# Altium footprint library Driver.PcbLib: 18 footprints (part 1 of 2)
Each footprint in its own frame and in the unit in brackets; x right, y up, seen from the top. Pads: shape width x height; smd on the part's side, far side on the other; paste and mask are expansions set on the pad; w line width, h text height; cw(c..) or ccw(c..) is an arc to the next point about the centre after c.
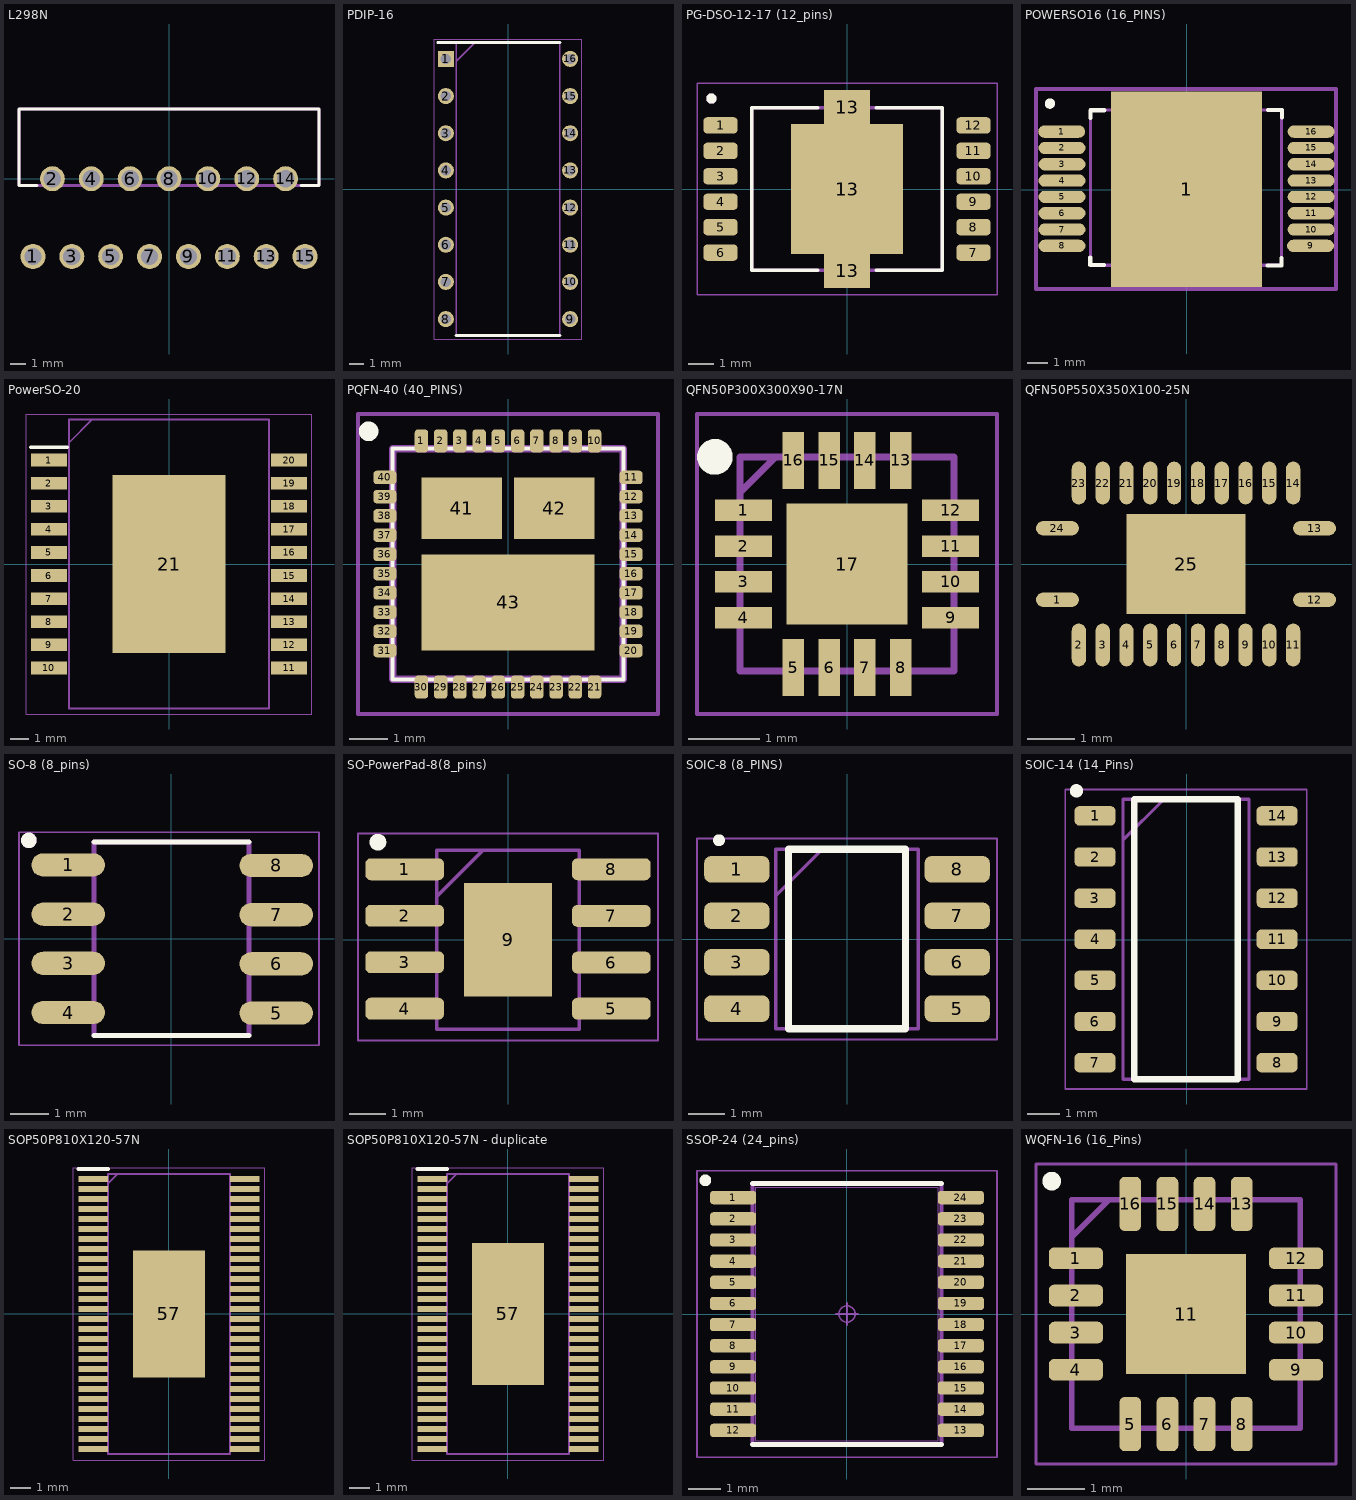
[diagram p0: the footprints below, top view; thin cyan lines are the x and y axes]

## L298N [mm]
pads (15):
  round 1.63 hole 1.13: 1(-8.89,-5.08) 2(-7.62,0) 3(-6.35,-5.08) 4(-5.08,0) 5(-3.81,-5.08) 6(-2.54,0) 7(-1.27,-5.08) 8(0,0) 9(1.27,-5.08) 10(2.54,0) 11(3.81,-5.08) 12(5.08,0) 13(6.35,-5.08) 14(7.62,0) 15(8.89,-5.08)
Top Overlay:
  lines w0.2: -8.638,-0.45 -9.8,-0.45 -9.8,4.55 9.8,4.55 9.8,-0.45 8.638,-0.45
Mechanical 13:
  lines w0.2: -9.8,-0.45 -9.8,4.55 9.8,4.55 9.8,-0.45 -9.8,-0.45
3D body "L298N.stp": height 21.75, standoff -3.35, extent -9.8,-5.172 9.8,3.92

## PDIP-16 [mm]
pads (16):
  rect 1.1x1.1 hole 0.7: 1(-4.25,8.89)
  round 1.1 hole 0.7: 2(-4.25,6.35) 3(-4.25,3.81) 4(-4.25,1.27) 5(-4.25,-1.27) 6(-4.25,-3.81) 7(-4.25,-6.35) 8(-4.25,-8.89) 9(4.25,-8.89) 10(4.25,-6.35) 11(4.25,-3.81) 12(4.25,-1.27) 13(4.25,1.27) 14(4.25,3.81) 15(4.25,6.35) 16(4.25,8.89)
Top Overlay:
  lines w0.2: -4.8,10 3.55,10 ; -3.55,-10 3.55,-10
Mechanical 13:
  lines w0.1: -3.55,8.73 -2.28,10 ; -3.55,-10 3.55,-10 3.55,10 -3.55,10 -3.55,-10
Mechanical 15:
  lines w0.05: -5.05,-10.25 5.05,-10.25 5.05,10.25 -5.05,10.25 -5.05,-10.25
3D body "L293B.stp": height 5.1, standoff -3.5, extent -4.375,-10 4.375,10

## PG-DSO-12-17 (12_pins) [mm]
pads (15):
  rrect50% 1.35x0.65 smd: 1(-4.975,2.5) 2(-4.975,1.5) 3(-4.975,0.5) 4(-4.975,-0.5) 5(-4.975,-1.5) 6(-4.975,-2.5) 7(4.975,-2.5) 8(4.975,-1.5) 9(4.975,-0.5) 10(4.975,0.5) 11(4.975,1.5) 12(4.975,2.5)
  rect 1.8x1.35 smd paste-2: 13(0,-3.225) 13(0,3.225)
  rect 4.4x5.1 smd paste-4: 13(0,0)
Top Overlay:
  circle w0.2: c-5.334,3.556 r0.102
  lines w0.127: -1.15,-3.2 -3.75,-3.2 -3.75,3.2 -1.15,3.2 ; 1.15,-3.2 3.75,-3.2 3.75,3.2 1.15,3.2
Top Paste:
  region: 0.475,2.525 -0.475,2.525 -0.475,4.125 0.475,4.125
  region: 2.275,0.375 0.025,0.375 0.025,2.275 2.275,2.275
  region: -0.025,0.375 -2.275,0.375 -2.275,2.275 -0.025,2.275
  region: 2.275,-2.275 0.025,-2.275 0.025,-0.375 2.275,-0.375
  region: -0.025,-2.275 -2.275,-2.275 -2.275,-0.375 -0.025,-0.375
  region: 0.475,-4.125 -0.475,-4.125 -0.475,-2.525 0.475,-2.525
Mechanical 13:
  circle w0.2: c-5.334,3.556 r0.102
  lines w0.127: -3.75,-3.2 3.75,-3.2 3.75,3.2 -3.75,3.2 -3.75,-3.2
Mechanical 15:
  lines w0.05: -5.9,-4.15 5.9,-4.15 5.9,4.15 -5.9,4.15 -5.9,-4.15
3D body "IFX9201SG.SLDPRT": height 2.5, standoff -0.02, extent -5.163,-3.9 5.163,3.9

## POWERSO16 (16_PINS) [mm] "POWERSO16 (16_PINS)"
pads (17):
  oval 2.3x0.6 smd paste+0 mask+0: 1(-6.125,2.85) 2(-6.108,2.05) 3(-6.108,1.25) 4(-6.108,0.45) 5(-6.108,-0.35) 6(-6.108,-1.15) 7(-6.108,-1.95) 8(-6.108,-2.75) 9(6.075,-2.75) 10(6.1,-1.95) 11(6.1,-1.15) 12(6.1,-0.35) 13(6.1,0.45) 14(6.1,1.25) 15(6.1,2.05) 16(6.1,2.85)
  rect 7.4x9.6 smd paste+0 mask+0: 1(0,0.025)
Top Overlay:
  circle w0.3: c-6.7,4.225 r0.103
  lines w0.2: -4.725,-3.313 -4.725,-3.688 -4.05,-3.688 ; -4.712,3.525 -4.712,3.9 -4.037,3.9 ; 3.975,-3.713 4.65,-3.713 4.65,-3.338 ; 4,3.912 4.675,3.912 4.675,3.537
Mechanical 10:
  lines w0.2: -7.383,-4.875 -7.383,4.95 7.325,4.95 7.325,-4.875 -7.383,-4.875
Mechanical 12:
  lines w0.15: -4.708,-3.7 -4.708,3.9 4.65,3.9 4.65,-3.7 -4.708,-3.7
Mechanical 15:
  lines w0.1: -0.783,-0.4 0.217,-0.4 ; -0.283,-0.9 -0.283,0.1
  lines w0.2: -7.383,-4.875 -7.383,4.95 7.325,4.95 7.325,-4.875 -7.383,-4.875
3D body: height 0.25, standoff 0, extent -7.05,-4.725 7.05,4.775

## PowerSO-20 [mm]
pads (21):
  rect 2x0.7 smd: 1(-6.6,5.715) 2(-6.6,4.445) 3(-6.6,3.175) 4(-6.6,1.905) 5(-6.6,0.635) 6(-6.6,-0.635) 7(-6.6,-1.905) 8(-6.6,-3.175) 9(-6.6,-4.445) 10(-6.6,-5.715) 11(6.6,-5.715) 12(6.6,-4.445) 13(6.6,-3.175) 14(6.6,-1.905) 15(6.6,-0.635) 16(6.6,0.635) 17(6.6,1.905) 18(6.6,3.175) 19(6.6,4.445) 20(6.6,5.715)
  rect 6.2x9.8 smd: 21(0,0)
Top Overlay:
  lines w0.2: -7.6,6.415 -5.6,6.415
Mechanical 13:
  lines w0.1: -5.5,6.68 -4.23,7.95 ; -5.5,-7.95 5.5,-7.95 5.5,7.95 -5.5,7.95 -5.5,-7.95
Mechanical 15:
  lines w0.05: -7.85,-8.25 7.85,-8.25 7.85,8.25 -7.85,8.25 -7.85,-8.25
3D body "L298P.stp": height 3.6, standoff 0, extent -7.1,-7.95 7.1,7.95

## PQFN-40 (40_PINS) [mm] "PQFN-40 (40_PINS)"
pads (43):
  rrect50% 0.35x0.6 smd: 1(-2.25,3.2) 2(-1.75,3.2) 3(-1.25,3.2) 4(-0.75,3.2) 5(-0.25,3.2) 6(0.25,3.2) 7(0.75,3.2) 8(1.25,3.2) 9(1.75,3.2) 10(2.25,3.2) 21(2.25,-3.2) 22(1.75,-3.2) 23(1.25,-3.2) 24(0.75,-3.2) 25(0.25,-3.2) 26(-0.25,-3.2) 27(-0.75,-3.2) 28(-1.25,-3.2) 29(-1.75,-3.2) 30(-2.25,-3.2)
  rrect50% 0.6x0.35 smd: 11(3.2,2.25) 12(3.2,1.75) 13(3.2,1.25) 14(3.2,0.75) 15(3.2,0.25) 16(3.2,-0.25) 17(3.2,-0.75) 18(3.2,-1.25) 19(3.2,-1.75) 20(3.2,-2.25) 31(-3.2,-2.25) 32(-3.2,-1.75) 33(-3.2,-1.25) 34(-3.2,-0.75) 35(-3.2,-0.25) 36(-3.2,0.25) 37(-3.2,0.75) 38(-3.2,1.25) 39(-3.2,1.75) 40(-3.2,2.25)
  rect 2.1x1.6 smd: 41(-1.2,1.45) 42(1.2,1.45)
  rect 4.5x2.5 smd: 43(0,-1)
Top Overlay:
  circle w0.3: c-3.625,3.45 r0.103
  lines w0.1: -3,-3 -3,3 3,3 3,-3 -3,-3
Mechanical 13:
  lines w0.2: -3,-3 -3,3 3,3 3,-3 -3,-3
Mechanical 15:
  lines w0.1: -3.9,-3.9 -3.9,3.9 3.9,3.9 3.9,-3.9 -3.9,-3.9
3D body "FDMF6820C.stp": height 1.2, standoff 0, extent -3,-3 3,3

## QFN50P300X300X90-17N [mm]
pads (17):
  rect 0.8x0.3 smd: 1(-1.45,0.75) 2(-1.45,0.25) 3(-1.45,-0.25) 4(-1.45,-0.75) 9(1.45,-0.75) 10(1.45,-0.25) 11(1.45,0.25) 12(1.45,0.75)
  rect 0.3x0.8 smd: 5(-0.75,-1.45) 6(-0.25,-1.45) 7(0.25,-1.45) 8(0.75,-1.45) 13(0.75,1.45) 14(0.25,1.45) 15(-0.25,1.45) 16(-0.75,1.45)
  rect 1.7x1.7 smd: 17(0,0)
Top Overlay:
  circle w0.25: c-1.85,1.5 r0.125
Mechanical 15:
  lines w0.1: -1.5,1 -1,1.5 ; -1.5,-1.5 1.5,-1.5 1.5,1.5 -1.5,1.5 -1.5,-1.5
Mechanical 20:
  lines w0.05: -2.1,-2.1 2.1,-2.1 2.1,2.1 -2.1,2.1 -2.1,-2.1

## QFN50P550X350X100-25N [mm]
pads (25):
  oval 0.9x0.3 smd: 1(-2.7,-0.75) 12(2.7,-0.75) 13(2.7,0.75) 24(-2.7,0.75)
  oval 0.3x0.9 smd: 2(-2.25,-1.7) 3(-1.75,-1.7) 4(-1.25,-1.7) 5(-0.75,-1.7) 6(-0.25,-1.7) 7(0.25,-1.7) 8(0.75,-1.7) 9(1.25,-1.7) 10(1.75,-1.7) 11(2.25,-1.7) 14(2.25,1.7) 15(1.75,1.7) 16(1.25,1.7) 17(0.75,1.7) 18(0.25,1.7) 19(-0.25,1.7) 20(-0.75,1.7) 21(-1.25,1.7) 22(-1.75,1.7) 23(-2.25,1.7)
  rect 2.5x2.1 smd paste-2: 25(0,0)
Top Paste:
  region: 0.83,-0.631 -0.831,-0.631 -0.831,0.63 0.83,0.63
3D body "RGY_24.step": height 1.4, standoff 0, extent -2.825,-1.825 2.825,1.825

## SO-8 (8_pins) [mm]
pads (16):
  oval 1.9x0.6 smd: 1(-2.667,1.905) 2(-2.667,0.635) 3(-2.667,-0.635) 4(-2.667,-1.905) 5(2.704,-1.918) 6(2.704,-0.648) 7(2.704,0.622) 8(2.704,1.892)
  rrect25% 1.71x0 smd: 1(-2.605,1.905) 2(-2.605,0.635) 3(-2.605,-0.635) 4(-2.605,-1.905) 5(2.605,-1.905) 6(2.605,-0.635) 7(2.605,0.635) 8(2.605,1.905)
Top Overlay:
  circle w0.2: c-3.683,2.54 r0.1
  lines w0.127: -2,-2.5 2,-2.5 ; -2,2.5 2,2.5
Mechanical 13:
  circle w0.2: c-3.683,2.54 r0.1
  lines w0.127: -2,-2.5 2,-2.5 2,2.5 -2,2.5 -2,-2.5
Mechanical 15:
  lines w0.05: -3.937,-2.75 3.81,-2.75 3.81,2.75 -3.937,2.75 -3.937,-2.75
3D body "step_temp.STEP": height 1.75, standoff 0, extent -3,-2.45 3,2.45

## SO-PowerPad-8(8_pins) [mm]
pads (9):
  rrect50% 2.15x0.6 smd: 1(-2.825,1.925) 2(-2.825,0.655) 3(-2.825,-0.615) 4(-2.825,-1.885) 5(2.825,-1.885) 6(2.825,-0.625) 7(2.825,0.65) 8(2.825,1.925)
  rect 2.4x3.1 smd: 9(0,0)
Top Overlay:
  circle w0.254: c-3.556,2.667 r0.102
Mechanical 13:
  lines w0.1: -1.95,1.18 -0.68,2.45 ; -1.95,-2.45 1.95,-2.45 1.95,2.45 -1.95,2.45 -1.95,-2.45
Mechanical 15:
  lines w0.05: -4.1,-2.75 4.1,-2.75 4.1,2.9 -4.1,2.9 -4.1,-2.75
3D body "DRV8871DDA.stp": height 1.7, standoff 0, extent -3,-2.45 3,2.45

## SOIC-8 (8_PINS) [mm] "SOIC-8 (8_PINS)"
pads (8):
  rrect50% 1.78x0.72 smd: 1(-3.012,1.905) 2(-3.012,0.635) 3(-3.012,-0.635) 4(-3.012,-1.905) 5(3.012,-1.905) 6(3.012,-0.635) 7(3.012,0.635) 8(3.012,1.905)
Top Overlay:
  lines w0.2: -3.44,2.716 ccw(c-3.5,2.7) -3.438,2.696 ; -1.6,-2.45 1.6,-2.45 1.6,2.45 -1.6,2.45 -1.6,-2.45
Mechanical 13:
  lines w0.1: -1.95,1.18 -0.68,2.45 ; -1.95,-2.45 1.95,-2.45 1.95,2.45 -1.95,2.45 -1.95,-2.45
Mechanical 15:
  lines w0.05: -4.1,-2.75 4.1,-2.75 4.1,2.75 -4.1,2.75 -4.1,-2.75
3D body "User Library-SOIC-8-1.STEP": height 1.75, standoff 0, extent -3,-2.45 3,2.45

## SOIC-14 (14_Pins) [mm] "14-Lead SOIC (14_Pins)"
pads (14):
  rrect50% 1.27x0.6 smd: 1(-2.825,3.825) 2(-2.825,2.555) 3(-2.828,1.284) 4(-2.825,0.015) 5(-2.825,-1.255) 6(-2.828,-2.526) 7(-2.828,-3.796) 8(2.796,-3.796) 9(2.796,-2.526) 10(2.796,-1.256) 11(2.796,0.014) 12(2.8,1.285) 13(2.8,2.555) 14(2.796,3.824)
Top Overlay:
  circle w0.3: c-3.4,4.6 r0.056
  lines w0.2: -1.616,-4.311 1.584,-4.311 1.584,4.339 -1.616,4.339 -1.616,-4.311
Mechanical 13:
  lines w0.1: -1.966,3.069 -0.696,4.339 ; -1.966,-4.311 1.934,-4.311 1.934,4.339 -1.966,4.339 -1.966,-4.311
Mechanical 15:
  lines w0.05: -3.741,-4.611 3.709,-4.611 3.709,4.639 -3.741,4.639 -3.741,-4.611
3D body "User Library-so14-1.STEP": height 1.7, standoff 0, extent -3.025,-4.4 2.975,4.4

## SOP50P810X120-57N [mm]
pads (57):
  rect 1.475x0.3 smd: 1(-3.788,6.75) 2(-3.788,6.25) 3(-3.788,5.75) 4(-3.788,5.25) 5(-3.788,4.75) 6(-3.788,4.25) 7(-3.788,3.75) 8(-3.788,3.25) 9(-3.788,2.75) 10(-3.788,2.25) 11(-3.788,1.75) 12(-3.788,1.25) 13(-3.788,0.75) 14(-3.788,0.25) 15(-3.788,-0.25) 16(-3.788,-0.75) 17(-3.788,-1.25) 18(-3.788,-1.75) 19(-3.788,-2.25) 20(-3.788,-2.75) 21(-3.788,-3.25) 22(-3.788,-3.75) 23(-3.788,-4.25) 24(-3.788,-4.75) 25(-3.788,-5.25) 26(-3.788,-5.75) 27(-3.788,-6.25) 28(-3.788,-6.75) 29(3.788,-6.75) 30(3.788,-6.25) 31(3.788,-5.75) 32(3.788,-5.25) 33(3.788,-4.75) 34(3.788,-4.25) 35(3.788,-3.75) 36(3.788,-3.25) 37(3.788,-2.75) 38(3.788,-2.25) 39(3.788,-1.75) 40(3.788,-1.25) 41(3.788,-0.75) 42(3.788,-0.25) 43(3.788,0.25) 44(3.788,0.75) 45(3.788,1.25) 46(3.788,1.75) 47(3.788,2.25) 48(3.788,2.75) 49(3.788,3.25) 50(3.788,3.75) 51(3.788,4.25) 52(3.788,4.75) 53(3.788,5.25) 54(3.788,5.75) 55(3.788,6.25) 56(3.788,6.75)
  rect 3.61x6.35 smd: 57(0,0)
Top Overlay:
  lines w0.2: -4.525,7.25 -3.05,7.25
Mechanical 13:
  lines w0.1: -3.05,6.5 -2.55,7 ; -3.05,-7 3.05,-7 3.05,7 -3.05,7 -3.05,-7
Mechanical 15:
  lines w0.05: -4.775,-7.3 4.775,-7.3 4.775,7.3 -4.775,7.3 -4.775,-7.3
3D body "DRV8301DCA.stp": height 1.2, standoff 0, extent -4.05,-7 4.05,7

## SOP50P810X120-57N - duplicate [mm]
pads (57):
  rect 1.475x0.3 smd: 1(-3.788,6.75) 2(-3.788,6.25) 3(-3.788,5.75) 4(-3.788,5.25) 5(-3.788,4.75) 6(-3.788,4.25) 7(-3.788,3.75) 8(-3.788,3.25) 9(-3.788,2.75) 10(-3.788,2.25) 11(-3.788,1.75) 12(-3.788,1.25) 13(-3.788,0.75) 14(-3.788,0.25) 15(-3.788,-0.25) 16(-3.788,-0.75) 17(-3.788,-1.25) 18(-3.788,-1.75) 19(-3.788,-2.25) 20(-3.788,-2.75) 21(-3.788,-3.25) 22(-3.788,-3.75) 23(-3.788,-4.25) 24(-3.788,-4.75) 25(-3.788,-5.25) 26(-3.788,-5.75) 27(-3.788,-6.25) 28(-3.788,-6.75) 29(3.788,-6.75) 30(3.788,-6.25) 31(3.788,-5.75) 32(3.788,-5.25) 33(3.788,-4.75) 34(3.788,-4.25) 35(3.788,-3.75) 36(3.788,-3.25) 37(3.788,-2.75) 38(3.788,-2.25) 39(3.788,-1.75) 40(3.788,-1.25) 41(3.788,-0.75) 42(3.788,-0.25) 43(3.788,0.25) 44(3.788,0.75) 45(3.788,1.25) 46(3.788,1.75) 47(3.788,2.25) 48(3.788,2.75) 49(3.788,3.25) 50(3.788,3.75) 51(3.788,4.25) 52(3.788,4.75) 53(3.788,5.25) 54(3.788,5.75) 55(3.788,6.25) 56(3.788,6.75)
  rect 3.61x7.11 smd: 57(0,0)
Top Overlay:
  lines w0.2: -4.525,7.25 -3.05,7.25
Mechanical 15:
  lines w0.1: -3.05,6.5 -2.55,7 ; -3.05,-7 -3.05,7 3.05,7 3.05,-7 -3.05,-7
Mechanical 20:
  lines w0.05: -4.775,-7.3 -4.775,7.3 4.775,7.3 4.775,-7.3 -4.775,-7.3

## SSOP-24 (24_pins) [mm]
pads (24):
  rrect49% 1.42x0.41 smd: 1(-3.5,3.575) 2(-3.5,2.925) 3(-3.5,2.275) 4(-3.5,1.625) 5(-3.5,0.975) 6(-3.5,0.325) 7(-3.5,-0.325) 8(-3.5,-0.975) 9(-3.5,-1.625) 10(-3.5,-2.275) 11(-3.5,-2.925) 12(-3.5,-3.575) 13(3.5,-3.575) 14(3.5,-2.925) 15(3.5,-2.275) 16(3.5,-1.625) 17(3.5,-0.975) 18(3.5,-0.325) 19(3.5,0.325) 20(3.5,0.975) 21(3.5,1.625) 22(3.5,2.275) 23(3.5,2.925) 24(3.5,3.575)
Top Overlay:
  lines w0.15: -2.9,-4.005 2.9,-4.005 ; -2.9,4.005 2.9,4.005
  lines w0.2: -4.275,4.125 ccw(c-4.353,4.107) -4.273,4.105
Mechanical 11:
  lines w0.12: -2.9,-4 2.9,-4 2.9,4 -2.9,4 -2.9,-4
Mechanical 12:
  lines w0.025: -3.8,-3.685 -3.8,-3.465 -3.35,-3.465 -3.35,-3.685 -3.8,-3.685 ; -3.8,-3.035 -3.8,-2.815 -3.35,-2.815 -3.35,-3.035 -3.8,-3.035 ; -3.8,-2.385 -3.8,-2.165 -3.35,-2.165 -3.35,-2.385 -3.8,-2.385 ; -3.8,-1.735 -3.8,-1.515 -3.35,-1.515 -3.35,-1.735 -3.8,-1.735 ; -3.8,-1.085 -3.8,-0.865 -3.35,-0.865 -3.35,-1.085 -3.8,-1.085 ; -3.8,-0.435 -3.8,-0.215 -3.35,-0.215 -3.35,-0.435 -3.8,-0.435 ; -3.8,0.215 -3.8,0.435 -3.35,0.435 -3.35,0.215 -3.8,0.215 ; -3.8,0.865 -3.8,1.085 -3.35,1.085 -3.35,0.865 -3.8,0.865 ; -3.8,1.515 -3.8,1.735 -3.35,1.735 -3.35,1.515 -3.8,1.515 ; -3.8,2.165 -3.8,2.385 -3.35,2.385 -3.35,2.165 -3.8,2.165 ; -3.8,2.815 -3.8,3.035 -3.35,3.035 -3.35,2.815 -3.8,2.815 ; -3.8,3.465 -3.8,3.685 -3.35,3.685 -3.35,3.465 -3.8,3.465 ; -2.8,-3.9 -2.8,3.9 2.8,3.9 2.8,-3.9 -2.8,-3.9 ; 3.35,-3.685 3.35,-3.465 3.8,-3.465 3.8,-3.685 3.35,-3.685 ; 3.35,-3.035 3.35,-2.815 3.8,-2.815 3.8,-3.035 3.35,-3.035 ; 3.35,-2.385 3.35,-2.165 3.8,-2.165 3.8,-2.385 3.35,-2.385 ; 3.35,-1.735 3.35,-1.515 3.8,-1.515 3.8,-1.735 3.35,-1.735 ; 3.35,-1.085 3.35,-0.865 3.8,-0.865 3.8,-1.085 3.35,-1.085 ; 3.35,-0.435 3.35,-0.215 3.8,-0.215 3.8,-0.435 3.35,-0.435 ; 3.35,0.215 3.35,0.435 3.8,0.435 3.8,0.215 3.35,0.215 ; 3.35,0.865 3.35,1.085 3.8,1.085 3.8,0.865 3.35,0.865 ; 3.35,1.515 3.35,1.735 3.8,1.735 3.8,1.515 3.35,1.515 ; 3.35,2.165 3.35,2.385 3.8,2.385 3.8,2.165 3.35,2.165 ; 3.35,2.815 3.35,3.035 3.8,3.035 3.8,2.815 3.35,2.815 ; 3.35,3.465 3.35,3.685 3.8,3.685 3.8,3.465 3.35,3.465
Mechanical 15:
  circle w0.05: c0,0 r0.25
  lines w0.05: -0.35,0 0.35,0 ; 0,-0.35 0,0.35 ; -4.61,-4.4 -4.61,4.4 -3.3,4.4 3.3,4.4 4.61,4.4 4.61,-4.4 3.3,-4.4 -3.3,-4.4 -4.61,-4.4
3D body "IC_Toshiba_TB6612FNG_C_8_EL_eec.STEP": height 0.25, standoff 0, extent -4.927,-4.65 5.077,4.65

## WQFN-16 (16_Pins) [mm] "WQFN-16 (16_Pins)"
pads (17):
  rrect50% 0.95x0.38 smd: 1(-1.926,0.975) 2(-1.926,0.325) 3(-1.926,-0.325) 4(-1.926,-0.975) 9(1.926,-0.975) 10(1.926,-0.325) 11(1.926,0.325) 12(1.926,0.975)
  rrect50% 0.38x0.95 smd: 5(-0.975,-1.926) 6(-0.325,-1.926) 7(0.325,-1.926) 8(0.975,-1.926) 13(0.975,1.926) 14(0.325,1.926) 15(-0.325,1.926) 16(-0.975,1.926)
  rect 2.1x2.1 smd: 11(0,0)
Top Overlay:
  lines w0.2: -2.29,2.341 ccw(c-2.35,2.325) -2.288,2.321
Mechanical 13:
  lines w0.1: -2,1.35 -1.35,2 ; -2,-2 -2,2 2,2 2,-2 -2,-2
Mechanical 15:
  lines w0.05: -2.625,-2.625 -2.625,2.625 2.625,2.625 2.625,-2.625 -2.625,-2.625
3D body "DRV8833RTYT.stp": height 0.8, standoff 0, extent -2.05,-2.05 2.05,2.05